# EAGLE library part MPXV7002DP (library MPXV7002DP)
Pressure Sensor 7kPa Differential 2-Port Source: Datasheet <https://componentsearchengine.com/Datasheets/2/MPXV7002DP.pdf>
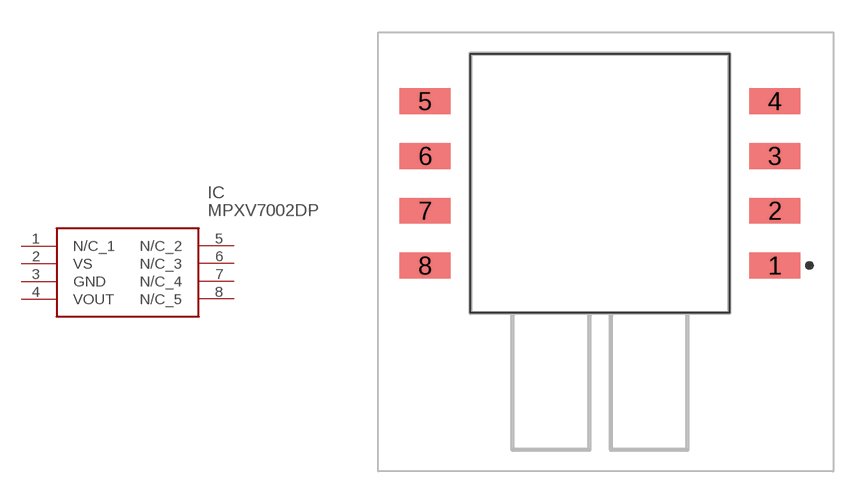
[diagram p0: symbol with the pads of MPXV7002DP; footprint MPXV7002DP]

Designator prefix IC

## MPXV7002DP (Description: Pressure Sensor 7kPa Differential 2-Port; Height: 9.906mm; Manufacturer_Name: Nexperia; Manufacturer_Part_Number: MPXV7002DP; Mouser_Part_Number: 841-MPXV7002DP; Mouser_Price-Stock: https://www.mouser.com/Search/Refine.aspx?Keyword=841-MPXV7002DP; RS_Part_Number: 7191197P; RS_Price-Stock: http://uk.rs-online.com/web/p/products/7191197P)  [MPXV7002DP]
1  N/C_1
2  VS
3  GND
4  VOUT
5  N/C_2
6  N/C_3
7  N/C_4
8  N/C_5

## Footprint MPXV7002DP (pad centres in mm)
MPXV7002DP-2
smd 2.35 x 1.2: 1 8.1,2.19; 2 8.1,4.73; 3 8.1,7.27; 4 8.1,9.81; 5 -8.1,9.81; 6 -8.1,7.27; 7 -8.1,4.73; 8 -8.1,2.19